# EAGLE library part SPIRIT1 (library BaseApp)
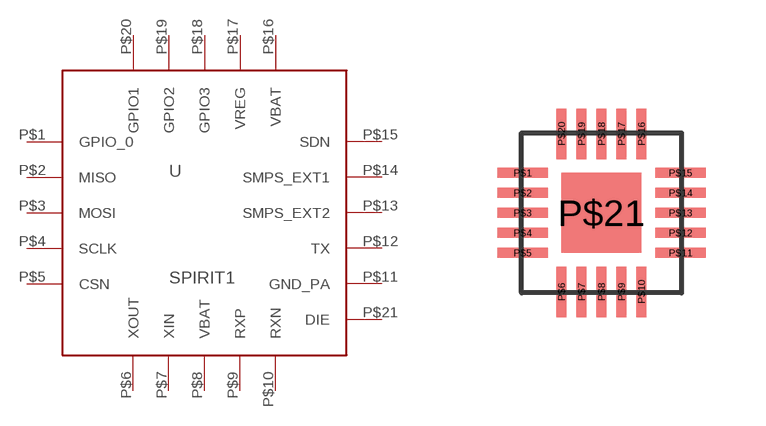
[diagram p134: symbol with the pads of QFN20; footprint QFN20]

Designator prefix -

## SPIRIT1  [QFN20]
P$1  GPIO_0
P$2  MISO
P$3  MOSI
P$4  SCLK
P$5  CSN
P$6  XOUT
P$7  XIN
P$8  VBAT
P$9  RXP
P$10  RXN
P$11  GND_PA
P$12  TX
P$13  SMPS_EXT2
P$14  SMPS_EXT1
P$15  SDN
P$16  VBAT
P$17  VREG
P$18  GPIO3
P$19  GPIO2
P$20  GPIO1
P$21  DIE

## Footprint QFN20 (pad centres in mm)
smd 1.27 x 0.25: P$1 -1.975,1; P$2 -1.975,0.5; P$3 -1.975,0; P$4 -1.975,-0.5; P$5 -1.975,-1; P$11 1.975,-1; P$12 1.975,-0.5; P$13 1.975,0; P$14 1.975,0.5; P$15 1.975,1
smd 0.25 x 1.27: P$6 -1,-1.975; P$7 -0.5,-1.975; P$8 0,-1.975; P$9 0.5,-1.975; P$10 1,-1.975; P$16 1,1.975; P$17 0.5,1.975; P$18 0,1.975; P$19 -0.5,1.975; P$20 -1,1.975
smd 2 x 2: P$21 0,0